# EAGLE library part TUSB2046 (library tusb2046b)
USB 4 Port HUB RS No: 709-8786 MRF No: TUSB2046BIRHBTG4
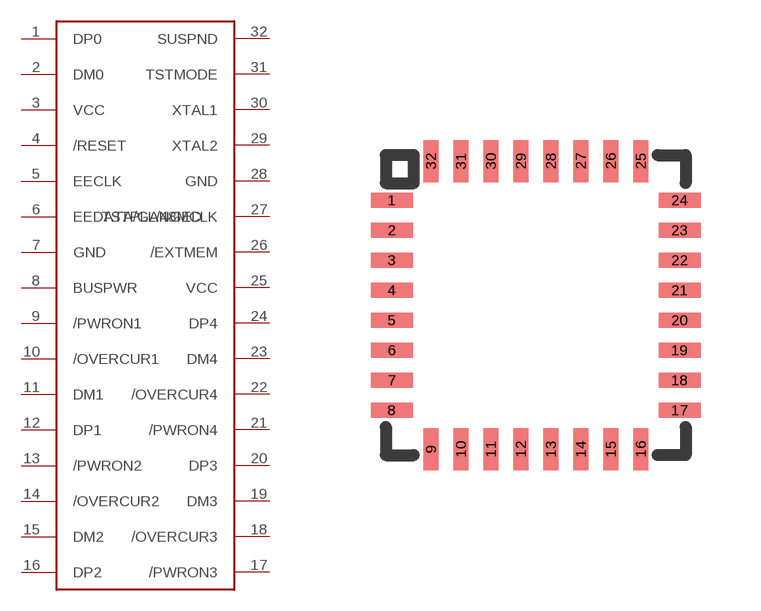
[diagram p0: symbol with the pads of TUSB2046B; footprint TUSB2046B]

Designator prefix -

## TUSB2046  [TUSB2046B]
1  DP0
2  DM0
3  VCC
4  /RESET
5  EECLK
6  EEDATA/GANGED
7  GND
8  BUSPWR
9  /PWRON1
10  /OVERCUR1
11  DM1
12  DP1
13  /PWRON2
14  /OVERCUR2
15  DM2
16  DP2
17  /PWRON3
18  /OVERCUR3
19  DM3
20  DP3
21  /PWRON4
22  /OVERCUR4
23  DM4
24  DP4
25  VCC
26  /EXTMEM
27  TSTPLL/48MCLK
28  GND
29  XTAL2
30  XTAL1
31  TSTMODE
32  SUSPND

## Footprint TUSB2046B (pad centres in mm)
smd 1.05 x 0.375: 1 -3.6,2.625; 2 -3.6,1.875; 3 -3.6,1.125; 4 -3.6,0.375; 5 -3.6,-0.375; 6 -3.6,-1.125; 7 -3.6,-1.875; 8 -3.6,-2.625; 17 3.6,-2.625; 18 3.6,-1.875; 19 3.6,-1.125; 20 3.6,-0.375; 21 3.6,0.375; 22 3.6,1.125; 23 3.6,1.875; 24 3.6,2.625
smd 0.375 x 1.05: 9 -2.625,-3.6; 10 -1.875,-3.6; 11 -1.125,-3.6; 12 -0.375,-3.6; 13 0.375,-3.6; 14 1.125,-3.6; 15 1.875,-3.6; 16 2.625,-3.6; 25 2.625,3.6; 26 1.875,3.6; 27 1.125,3.6; 28 0.375,3.6; 29 -0.375,3.6; 30 -1.125,3.6; 31 -1.875,3.6; 32 -2.625,3.6